# EAGLE library part MP2307 (library trafshlib)
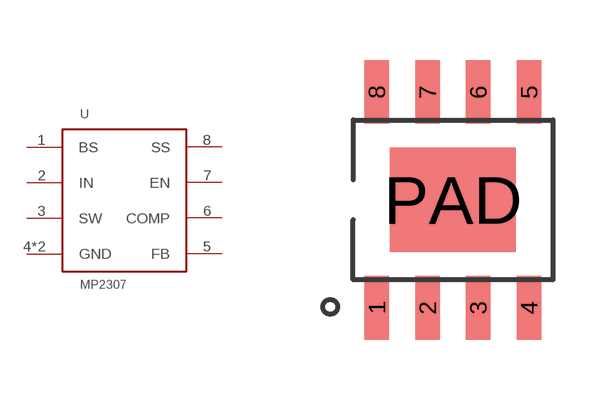
[diagram p5: symbol with the pads of SO8; footprint SO8]

Designator prefix U

## MP2307  [SO8]
1  BS
2  IN  pwr
3  SW
4  GND  pwr
5  FB
6  COMP
7  EN
8  SS
PAD  GND  pwr

## Footprint SO8 (pad centres in mm)
8-Lead Small Outline IC (SO-8) Source: http://www.analog.com/UploadedFiles/Data_Sheets/703465986AD8611_2_0.pdf
smd 0.61 x 1.6: 1 -1.905,-2.7; 2 -0.635,-2.7; 3 0.635,-2.7; 4 1.905,-2.7; 5 1.905,2.7; 6 0.635,2.7; 7 -0.635,2.7; 8 -1.905,2.7
smd 3.15 x 2.62: PAD 0,0